# Altium integrated library Analog Devices Switches and Multiplexers Multiplexers (Muxes).IntLib: 481 symbols (part 21 of 23)
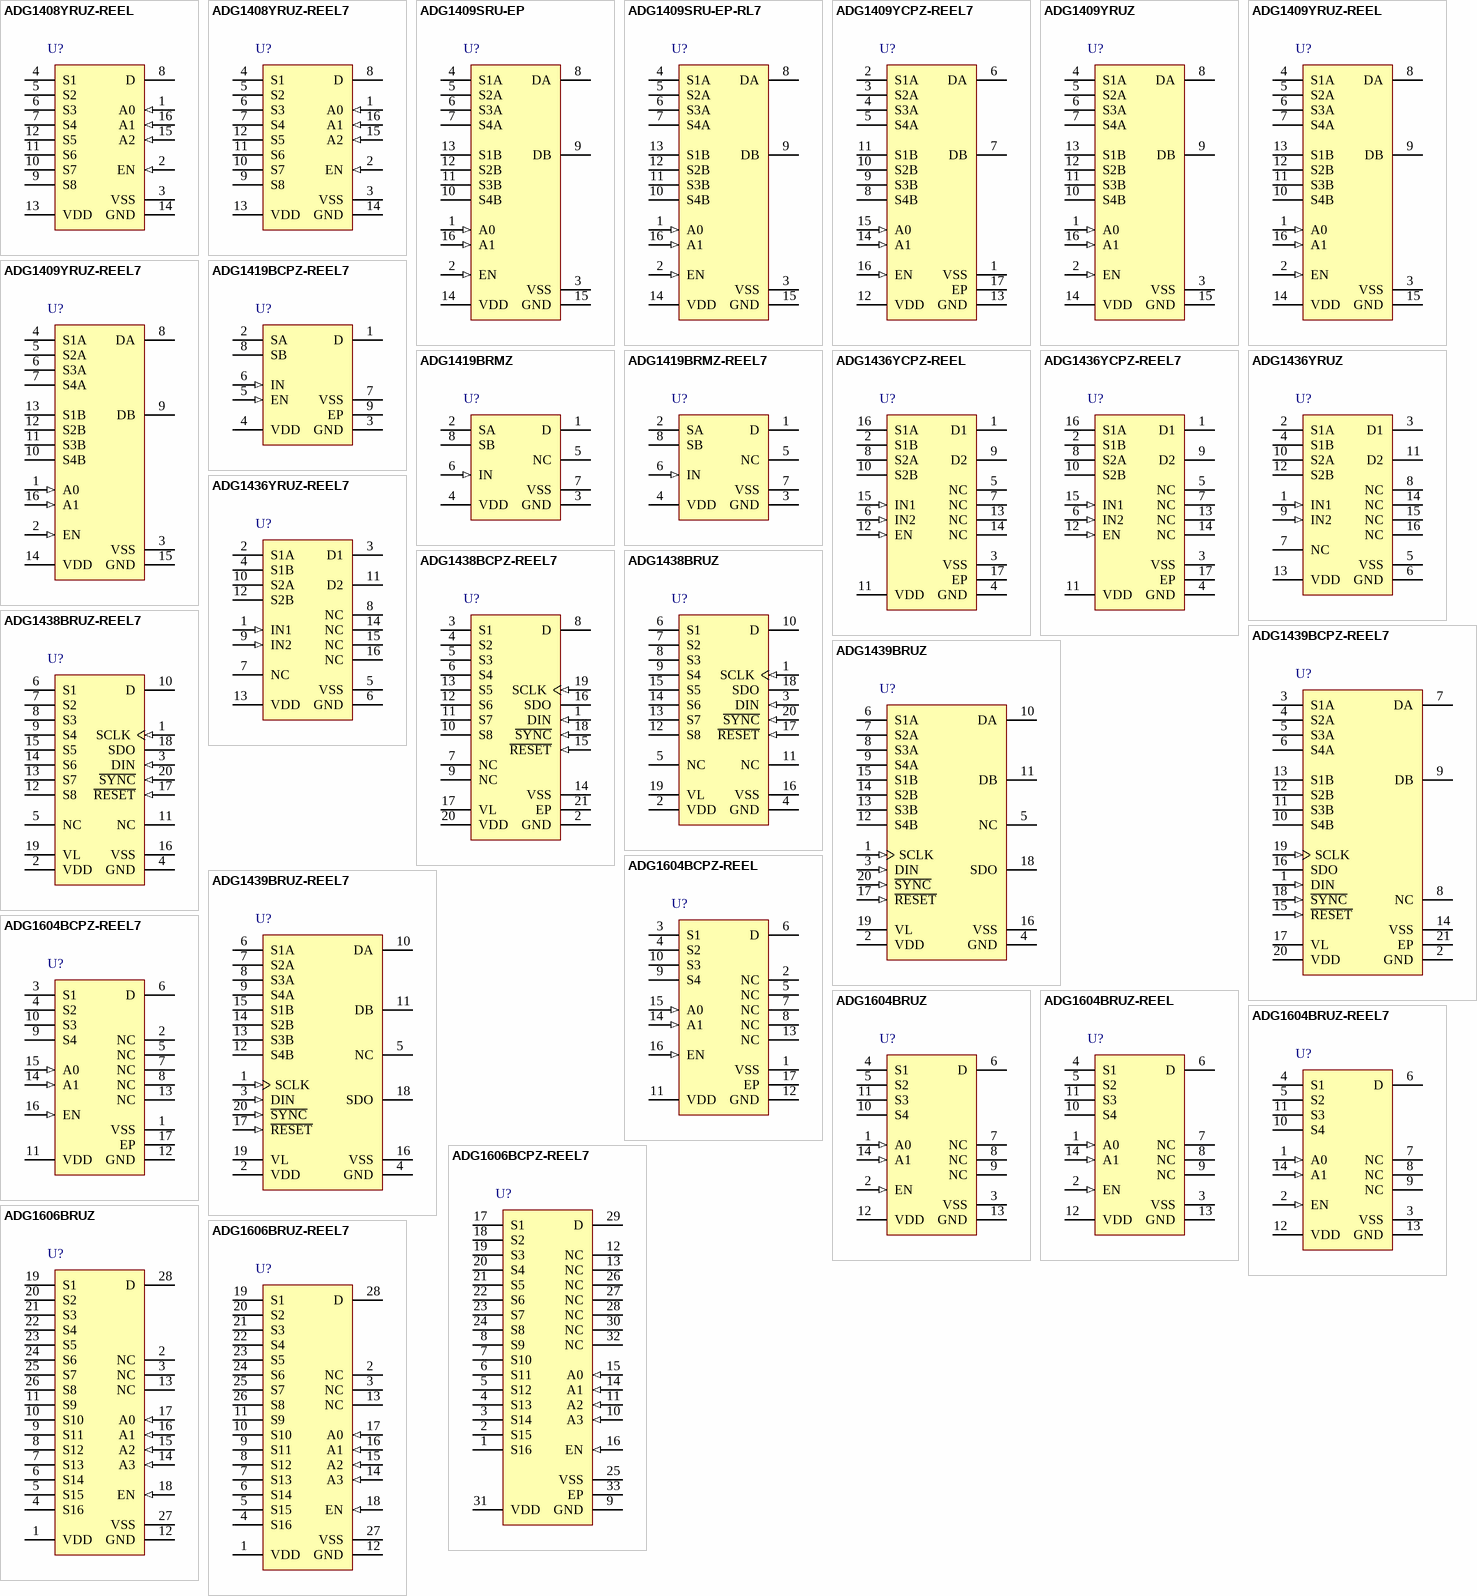
[diagram p37: symbols ADG1408YRUZ-REEL to ADG1606BRUZ-REEL7]

## ADG1409YRUZ-REEL7
designator U?
4 Ohm Ron, 4-Channel +/-15 V / +12 V / +/-5 V iCMOS Multiplexer, 16-pin SOP (RU-16), Reel; Manufacturer: Analog Devices; PartNumber: ADG1409YRUZ-REEL7; Bandwidth (Hz): 115M, 72 M, 80M; Max Analog Signal Range: Vss to Vdd; Ron (ohms): 4; t transition (s): 140n; DatasheetVersion: Rev. B; PackageVersion: Nov-02; PackageReference: RU-16; PackageDescription: 16-Pin Thin Shrink Small Outline Package, Body 5 x 4.4 mm, Pitch 0.65 mm; Supplier 1: Digi-Key; Supplier Part Number 1: ADG1409YRUZ-REEL7TR-ND; Supplier 2: Digi-Key; Supplier Part Number 2: ADG1409YRUZ-REEL7CT-ND; Supplier 3: Digi-Key; Supplier Part Number 3: ADG1409YRUZ-REEL7DKR-ND; Supplier 4: Newark; Supplier Part Number 4: 46M5171; Supplier 5: Mouser; Supplier Part Number 5: 584-ADG1409YRUZ-R7; Packing: Reel; Mounting Technology: Surface Mount; Code_JEDEC: MO-153AB; ComponentLink1Description: Manufacturer URL; ComponentLink1URL: http://www.analog.com/en/index.html; ComponentLink2Description: Datasheet; ComponentLink2URL: http://www.analog.com/static/imported-files/data_sheets/ADG1408_1409.pdf; ComponentLink3Description: Package Specification; ComponentLink3URL: http:/www.analog.com/static/imported-files/packages/36244347913743854010197452789RU16.pdf
footprint ADI-RU-16_N (SOP, 16-Leads, Body 5x4.4mm, Pitch 0.65mm, IPC Medium Density)
footprint ADI-RU-16_L (SOP, 16-Leads, Body 5x4.4mm, Pitch 0.65mm, IPC High Density)
footprint ADI-RU-16_M (SOP, 16-Leads, Body 5x4.4mm, Pitch 0.65mm, IPC Low Density)
pins: 1 A0 (in) "Logic Control Input.", 2 EN (in) "Active High Digital Input. When low, the device is disabled and all switches are off. When high, Ax logic inputs determine on switches.", 3 VSS (power) "Most Negative Power Supply Potential. In single supply applications, it can be connected to ground.", 4 S1A "Source Terminal 1A. Can be an input or an output.", 5 S2A "Source Terminal 2A. Can be an input or an output.", 6 S3A "Source Terminal 3A. Can be an input or an output.", 7 S4A "Source Terminal 4A. Can be an input or an output.", 8 DA "Drain Terminal A. Can be an input or an output.", 9 DB "Drain Terminal B. Can be an input or an output.", 10 S4B "Source Terminal 4B. Can be an input or an output.", 11 S3B "Source Terminal 3B. Can be an input or an output.", 12 S2B "Source Terminal 2B. Can be an input or an output", 13 S1B "Source Terminal 1B. Can be an input or an output.", 14 VDD (power) "Most Positive Power Supply Potential.", 15 GND (power) "Ground (0 V) Reference.", 16 A1 (in) "Logic Control Input."

## ADG1419BCPZ-REEL7
designator U?
+/-15 V / +12 V / +/-5 V iCMOS SPDT Switch, 8-pin QFN (CP-8-4), Reel; Manufacturer: Analog Devices; PartNumber: ADG1419BCPZ-REEL7; Bandwidth (Hz): 135M, 95M, 105M; Max Analog Signal Range: Vss to Vdd; Ron (ohms): 2.1; DatasheetVersion: Rev. 0; PackageVersion: 081806-A, 08/2006; PackageReference: CP-8-4; PackageDescription: 8-Pin Lead Frame Chip Scale Package, Body 3 x 2 mm, Pitch 0.5 mm; Supplier 1: Digi-Key; Supplier Part Number 1: ADG1419BCPZ-REEL7TR-ND; Supplier 2: Digi-Key; Supplier Part Number 2: ADG1419BCPZ-REEL7CT-ND; Supplier 3: Digi-Key; Supplier Part Number 3: ADG1419BCPZ-REEL7DKR-ND; Supplier 4: Farnell; Supplier Part Number 4: 2312938; Supplier 5: Newark; Supplier Part Number 5: 52R8033; Supplier 6: Newark; Supplier Part Number 6: 67W3119; Supplier 7: Mouser; Supplier Part Number 7: 584-ADG1419BCPZ-R7; Packing: Reel; Mounting Technology: Surface Mount; ComponentLink1Description: Manufacturer URL; ComponentLink1URL: http://www.analog.com/en/index.html; ComponentLink2Description: Datasheet; ComponentLink2URL: http://www.analog.com/static/imported-files/data_sheets/ADG1419.pdf; ComponentLink3Description: Package Specification; ComponentLink3URL: http://www.analog.com/static/imported-files/packages/57080735642908CP_8_4.pdf
footprint ADI-CP-8-4_V (SON, 8-Leads, Body 3x2mm, Pitch 0.5mm, Thermal Pad 1.75x1.9mm)
pins: 1 D "Drain Terminal. This pin can be an input or output.", 2 SA "Source Terminal. This pin can be an input or output.", 3 GND (power) "Ground (0 V) Reference.", 4 VDD (power) "Most Positive Power Supply Potential.", 5 EN (in) "Active High Digital Input. When this pin is low, the device is disabled and all switches are turned off. When this pin is high, the IN logic input determines which switch is turned on.", 6 IN (in) "Logic Control Input.", 7 VSS (power) "Most Negative Power Supply Potential.", 8 SB "Source Terminal. This pin can be an input or output.", 9 EP (power) "Exposed pad tied to substrate, VSS."

## ADG1419BRMZ
designator U?
+/-15 V / +12 V / +/-5 V iCMOS SPDT Switch, 8-pin SOP (RM-8), Tube; Manufacturer: Analog Devices; PartNumber: ADG1419BRMZ; Bandwidth (Hz): 135M, 95M, 105M; Max Analog Signal Range: Vss to Vdd; Ron (ohms): 2.1; DatasheetVersion: Rev. 0; PackageVersion: Aug-05; PackageReference: RM-8; PackageDescription: 8-Pin Mini Small Outline Package, Body 3 x 3 mm, Pitch 0.65 mm; Supplier 1: Digi-Key; Supplier Part Number 1: ADG1419BRMZ-ND; Supplier 2: Farnell; Supplier Part Number 2: 1858061; Supplier 3: Newark; Supplier Part Number 3: 52R8034; Supplier 4: Newark; Supplier Part Number 4: 39T3977; Supplier 5: Mouser; Supplier Part Number 5: 584-ADG1419BRMZ; Packing: Tube; Mounting Technology: Surface Mount; Code_JEDEC: MO-187-AA; ComponentLink1Description: Manufacturer URL; ComponentLink1URL: http://www.analog.com/en/index.html; ComponentLink2Description: Datasheet; ComponentLink2URL: http://www.analog.com/static/imported-files/data_sheets/ADG1419.pdf; ComponentLink3Description: Package Specification; ComponentLink3URL: http://www.analog.com/static/imported-files/packages/PKG_PDF/MSOP%28RM%29/RM_8.pdf
footprint ADI-RM-8_N (SOP, 8-Leads, Body 3x3mm, Pitch 0.65mm, IPC Medium Density)
footprint ADI-RM-8_L (SOP, 8-Leads, Body 3x3mm, Pitch 0.65mm, IPC High Density)
footprint ADI-RM-8_M (SOP, 8-Leads, Body 3x3mm, Pitch 0.65mm, IPC Low Density)
pins: 1 D "Drain Terminal. This pin can be an input or output.", 2 SA "Source Terminal. This pin can be an input or output.", 3 GND (power) "Ground (0 V) Reference.", 4 VDD (power) "Most Positive Power Supply Potential.", 5 NC "No Connect.", 6 IN (in) "Logic Control Input.", 7 VSS (power) "Most Negative Power Supply Potential.", 8 SB "Source Terminal. This pin can be an input or output."

## ADG1419BRMZ-REEL7
designator U?
+/-15 V / +12 V / +/-5 V iCMOS SPDT Switch, 8-pin SOP (RM-8), Reel; Manufacturer: Analog Devices; PartNumber: ADG1419BRMZ-REEL7; Bandwidth (Hz): 135M, 95M, 105M; Max Analog Signal Range: Vss to Vdd; Ron (ohms): 2.1; DatasheetVersion: Rev. 0; PackageVersion: Aug-05; PackageReference: RM-8; PackageDescription: 8-Pin Mini Small Outline Package, Body 3 x 3 mm, Pitch 0.65 mm; Supplier 1: Digi-Key; Supplier Part Number 1: ADG1419BRMZ-REEL7TR-ND; Supplier 2: Digi-Key; Supplier Part Number 2: ADG1419BRMZ-REEL7CT-ND; Supplier 3: Digi-Key; Supplier Part Number 3: ADG1419BRMZ-REEL7DKR-ND; Supplier 4: Newark; Supplier Part Number 4: 52R8035; Supplier 5: Mouser; Supplier Part Number 5: 584-ADG1419BRMZ-R7; Packing: Reel; Mounting Technology: Surface Mount; Code_JEDEC: MO-187-AA; ComponentLink1Description: Manufacturer URL; ComponentLink1URL: http://www.analog.com/en/index.html; ComponentLink2Description: Datasheet; ComponentLink2URL: http://www.analog.com/static/imported-files/data_sheets/ADG1419.pdf; ComponentLink3Description: Package Specification; ComponentLink3URL: http://www.analog.com/static/imported-files/packages/PKG_PDF/MSOP%28RM%29/RM_8.pdf
footprint ADI-RM-8_N (SOP, 8-Leads, Body 3x3mm, Pitch 0.65mm, IPC Medium Density)
footprint ADI-RM-8_L (SOP, 8-Leads, Body 3x3mm, Pitch 0.65mm, IPC High Density)
footprint ADI-RM-8_M (SOP, 8-Leads, Body 3x3mm, Pitch 0.65mm, IPC Low Density)
pins: 1 D "Drain Terminal. This pin can be an input or output.", 2 SA "Source Terminal. This pin can be an input or output.", 3 GND (power) "Ground (0 V) Reference.", 4 VDD (power) "Most Positive Power Supply Potential.", 5 NC "No Connect.", 6 IN (in) "Logic Control Input.", 7 VSS (power) "Most Negative Power Supply Potential.", 8 SB "Source Terminal. This pin can be an input or output."

## ADG1436YCPZ-REEL
designator U?
+/-15 V / 12 V / +/-5 V, iCMOS, Dual SPDT Switch, 16-pin QFN (CP-16-13), Reel; Manufacturer: Analog Devices; PartNumber: ADG1436YCPZ-REEL; Bandwidth (Hz): 110M, 78M, 85M; Max Analog Signal Range: Vss to Vdd; Ron (ohms): 1.5; DatasheetVersion: Rev. A; PackageVersion: 031006-A, 06/2006; PackageReference: CP-16-13; PackageDescription: 16-Pin Lead Frame Chip Scale Package, Body 4 x 4 mm, Pitch 0.65 mm; Supplier 1: Digi-Key; Supplier Part Number 1: ADG1436YCPZ-REEL-ND; Supplier 2: Newark; Supplier Part Number 2: 51R0649; Supplier 3: Mouser; Supplier Part Number 3: 584-ADG1436YCPZ-R; Packing: Reel; Mounting Technology: Surface Mount; Code_JEDEC: MO-220-VGGC.; ComponentLink1Description: Manufacturer URL; ComponentLink1URL: http://www.analog.com/en/index.html; ComponentLink2Description: Datasheet; ComponentLink2URL: http://www.analog.com/static/imported-files/data_sheets/ADG1436.pdf; ComponentLink3Description: Package Specification; ComponentLink3URL: http://www.analog.com/static/imported-files/packages/PKG_PDF/LFCSP(CP)/CP-16/CP_16_13.pdf
footprint ADI-CP-16-13_N (QFN, 16-Leads, Body 4x4mm, Pitch 0.65mm, Thermal Pad 2.5x2.5mm, IPC Medium Density)
footprint ADI-CP-16-13_L (QFN, 16-Leads, Body 4x4mm, Pitch 0.65mm, Thermal Pad 2.5x2.5mm, IPC High Density)
footprint ADI-CP-16-13_M (QFN, 16-Leads, Body 4x4mm, Pitch 0.65mm, Thermal Pad 2.5x2.5mm, IPC Low Density)
pins: 1 D1 "Drain Terminal. Can be an input or output.", 2 S1B "Source Terminal. Can be an input or output.", 3 VSS (power) "Most Negative Power Supply Potential.", 4 GND (power) "Ground (0 V) Reference.", 5 NC "No Connect.", 6 IN2 (in) "Logic Control Input.", 7 NC "No Connect.", 8 S2A "Source Terminal. Can be an input or output.", 9 D2 "Drain Terminal. Can be an input or output.", 10 S2B "Source Terminal. Can be an input or output.", 11 VDD (power) "Most Positive Power Supply Potential.", 12 EN (in) "Active High Digital Input. When this pin is low, the device is disabled and all switches are off. When this pin is high, INx logic inputs determine the on switches.", 13 NC "No Connect.", 14 NC "No Connect.", 15 IN1 (in) "Logic Control Input.", 16 S1A "Source Terminal. Can be an input or output.", 17 EP (power) "Exposed pad tied to substrate, VSS."

## ADG1436YCPZ-REEL7
designator U?
+/-15 V / 12 V / +/-5 V, iCMOS, Dual SPDT Switch, 16-pin QFN (CP-16-13), Reel; Manufacturer: Analog Devices; PartNumber: ADG1436YCPZ-REEL7; Bandwidth (Hz): 110M, 78M, 85M; Max Analog Signal Range: Vss to Vdd; Ron (ohms): 1.5; DatasheetVersion: Rev. A; PackageVersion: 031006-A, 06/2006; PackageReference: CP-16-13; PackageDescription: 16-Pin Lead Frame Chip Scale Package, Body 4 x 4 mm, Pitch 0.65 mm; Supplier 1: Digi-Key; Supplier Part Number 1: ADG1436YCPZ-REEL7TR-ND; Supplier 2: Digi-Key; Supplier Part Number 2: ADG1436YCPZ-REEL7CT-ND; Supplier 3: Digi-Key; Supplier Part Number 3: ADG1436YCPZ-REEL7DKR-ND; Supplier 4: Farnell; Supplier Part Number 4: 2312940; Supplier 5: Newark; Supplier Part Number 5: 51R0650; Supplier 6: Newark; Supplier Part Number 6: 67W3122; Supplier 7: Mouser; Supplier Part Number 7: 584-ADG1436YCPZ-R7; Packing: Reel; Mounting Technology: Surface Mount; Code_JEDEC: MO-220-VGGC.; ComponentLink1Description: Manufacturer URL; ComponentLink1URL: http://www.analog.com/en/index.html; ComponentLink2Description: Datasheet; ComponentLink2URL: http://www.analog.com/static/imported-files/data_sheets/ADG1436.pdf; ComponentLink3Description: Package Specification; ComponentLink3URL: http://www.analog.com/static/imported-files/packages/PKG_PDF/LFCSP(CP)/CP-16/CP_16_13.pdf
footprint ADI-CP-16-13_N (QFN, 16-Leads, Body 4x4mm, Pitch 0.65mm, Thermal Pad 2.5x2.5mm, IPC Medium Density)
footprint ADI-CP-16-13_L (QFN, 16-Leads, Body 4x4mm, Pitch 0.65mm, Thermal Pad 2.5x2.5mm, IPC High Density)
footprint ADI-CP-16-13_M (QFN, 16-Leads, Body 4x4mm, Pitch 0.65mm, Thermal Pad 2.5x2.5mm, IPC Low Density)
pins: 1 D1 "Drain Terminal. Can be an input or output.", 2 S1B "Source Terminal. Can be an input or output.", 3 VSS (power) "Most Negative Power Supply Potential.", 4 GND (power) "Ground (0 V) Reference.", 5 NC "No Connect.", 6 IN2 (in) "Logic Control Input.", 7 NC "No Connect.", 8 S2A "Source Terminal. Can be an input or output.", 9 D2 "Drain Terminal. Can be an input or output.", 10 S2B "Source Terminal. Can be an input or output.", 11 VDD (power) "Most Positive Power Supply Potential.", 12 EN (in) "Active High Digital Input. When this pin is low, the device is disabled and all switches are off. When this pin is high, INx logic inputs determine the on switches.", 13 NC "No Connect.", 14 NC "No Connect.", 15 IN1 (in) "Logic Control Input.", 16 S1A "Source Terminal. Can be an input or output.", 17 EP (power) "Exposed pad tied to substrate, VSS."

## ADG1436YRUZ
designator U?
+/-15 V / 12 V / +/-5 V, iCMOS, Dual SPDT Switch, 16-pin SOP (RU-16), Tube; Manufacturer: Analog Devices; PartNumber: ADG1436YRUZ; Bandwidth (Hz): 110M, 78M, 85M; Max Analog Signal Range: Vss to Vdd; Ron (ohms): 1.5; DatasheetVersion: Rev. A; PackageVersion: Nov-02; PackageReference: RU-16; PackageDescription: 16-Pin Thin Shrink Small Outline Package, Body 5 x 4.4 mm, Pitch 0.65 mm; Supplier 1: Digi-Key; Supplier Part Number 1: ADG1436YRUZ-ND; Supplier 2: Farnell; Supplier Part Number 2: 2067799; Supplier 3: Newark; Supplier Part Number 3: 73T8146; Supplier 4: Newark; Supplier Part Number 4: 51R0651; Supplier 5: Mouser; Supplier Part Number 5: 584-ADG1436YRUZ; Packing: Tube; Mounting Technology: Surface Mount; Code_JEDEC: MO-153AB; ComponentLink1Description: Manufacturer URL; ComponentLink1URL: http://www.analog.com/en/index.html; ComponentLink2Description: Datasheet; ComponentLink2URL: http://www.analog.com/static/imported-files/data_sheets/ADG1436.pdf; ComponentLink3Description: Package Specification; ComponentLink3URL: http:/www.analog.com/static/imported-files/packages/36244347913743854010197452789RU16.pdf
footprint ADI-RU-16_N (SOP, 16-Leads, Body 5x4.4mm, Pitch 0.65mm, IPC Medium Density)
footprint ADI-RU-16_L (SOP, 16-Leads, Body 5x4.4mm, Pitch 0.65mm, IPC High Density)
footprint ADI-RU-16_M (SOP, 16-Leads, Body 5x4.4mm, Pitch 0.65mm, IPC Low Density)
pins: 1 IN1 (in) "Logic Control Input.", 2 S1A "Source Terminal. Can be an input or output.", 3 D1 "Drain Terminal. Can be an input or output.", 4 S1B "Source Terminal. Can be an input or output.", 5 VSS (power) "Most Negative Power Supply Potential.", 6 GND (power) "Ground (0 V) Reference.", 7 NC "No Connect.", 8 NC "No Connect.", 9 IN2 (in) "Logic Control Input.", 10 S2A "Source Terminal. Can be an input or output.", 11 D2 "Drain Terminal. Can be an input or output.", 12 S2B "Source Terminal. Can be an input or output.", 13 VDD (power) "Most Positive Power Supply Potential.", 14 NC "No Connect.", 15 NC "No Connect.", 16 NC "No Connect."

## ADG1436YRUZ-REEL7
designator U?
+/-15 V / 12 V / +/-5 V, iCMOS, Dual SPDT Switch, 16-pin SOP (RU-16), Reel; Manufacturer: Analog Devices; PartNumber: ADG1436YRUZ-REEL7; Bandwidth (Hz): 110M, 78M, 85M; Max Analog Signal Range: Vss to Vdd; Ron (ohms): 1.5; DatasheetVersion: Rev. A; PackageVersion: Nov-02; PackageReference: RU-16; PackageDescription: 16-Pin Thin Shrink Small Outline Package, Body 5 x 4.4 mm, Pitch 0.65 mm; Supplier 1: Digi-Key; Supplier Part Number 1: ADG1436YRUZ-REEL7TR-ND; Supplier 2: Digi-Key; Supplier Part Number 2: ADG1436YRUZ-REEL7CT-ND; Supplier 3: Digi-Key; Supplier Part Number 3: ADG1436YRUZ-REEL7DKR-ND; Supplier 4: Newark; Supplier Part Number 4: 51R0652; Supplier 5: Mouser; Supplier Part Number 5: 584-ADG1436YRUZ-R7; Packing: Reel; Mounting Technology: Surface Mount; Code_JEDEC: MO-153AB; ComponentLink1Description: Manufacturer URL; ComponentLink1URL: http://www.analog.com/en/index.html; ComponentLink2Description: Datasheet; ComponentLink2URL: http://www.analog.com/static/imported-files/data_sheets/ADG1436.pdf; ComponentLink3Description: Package Specification; ComponentLink3URL: http:/www.analog.com/static/imported-files/packages/36244347913743854010197452789RU16.pdf
footprint ADI-RU-16_N (SOP, 16-Leads, Body 5x4.4mm, Pitch 0.65mm, IPC Medium Density)
footprint ADI-RU-16_L (SOP, 16-Leads, Body 5x4.4mm, Pitch 0.65mm, IPC High Density)
footprint ADI-RU-16_M (SOP, 16-Leads, Body 5x4.4mm, Pitch 0.65mm, IPC Low Density)
pins: 1 IN1 (in) "Logic Control Input.", 2 S1A "Source Terminal. Can be an input or output.", 3 D1 "Drain Terminal. Can be an input or output.", 4 S1B "Source Terminal. Can be an input or output.", 5 VSS (power) "Most Negative Power Supply Potential.", 6 GND (power) "Ground (0 V) Reference.", 7 NC "No Connect.", 8 NC "No Connect.", 9 IN2 (in) "Logic Control Input.", 10 S2A "Source Terminal. Can be an input or output.", 11 D2 "Drain Terminal. Can be an input or output.", 12 S2B "Source Terminal. Can be an input or output.", 13 VDD (power) "Most Positive Power Supply Potential.", 14 NC "No Connect.", 15 NC "No Connect.", 16 NC "No Connect."

## ADG1438BCPZ-REEL7
designator U?
Serially Controlled, +/-15 V / +12 V / +/-5 V, 8-Channel, iCMOS Multiplexer / Matrix Switch, 9.5 Ohm Ron, 20-pin QFN (CP-20-4), Reel; Manufacturer: Analog Devices; PartNumber: ADG1438BCPZ-REEL7; Bandwidth (Hz): 82M, 58M, 62M; Max Analog Signal Range: Vss to Vdd; Ron (ohms): 9.5; t transition (s): 80n; DatasheetVersion: Rev. A; PackageVersion: 012508-B; PackageReference: CP-20-4; PackageDescription: 20-Pin Lead Frame Chip Scale Package, Body 4 x 4 mm, Pitch 0.5 mm; Supplier 1: Digi-Key; Supplier Part Number 1: ADG1438BCPZ-REEL7TR-ND; Supplier 2: Digi-Key; Supplier Part Number 2: ADG1438BCPZ-REEL7CT-ND; Supplier 3: Digi-Key; Supplier Part Number 3: ADG1438BCPZ-REEL7DKR-ND; Supplier 4: Newark; Supplier Part Number 4: 70R1814; Supplier 5: Mouser; Supplier Part Number 5: 584-ADG1438BCPZ-R7; Packing: Reel; Mounting Technology: Surface Mount; Code_JEDEC: MO-220-VGGD-1; ComponentLink1Description: Manufacturer URL; ComponentLink1URL: http://www.analog.com/en/index.html; ComponentLink2Description: Datasheet; ComponentLink2URL: http://www.analog.com/static/imported-files/data_sheets/ADG1438_1439.pdf; ComponentLink3Description: Package Specification; ComponentLink3URL: http://www.analog.com/static/imported-files/packages/PKG_PDF/LFCSP(CP)/CP_20_4.pdf
footprint ADI-CP-20-4_N (QFN, 20-Leads, Body 4x4mm, Pitch 0.5mm, Thermal Pad 2.5x2.5mm, IPC Medium Density)
footprint ADI-CP-20-4_L (QFN, 20-Leads, Body 4x4mm, Pitch 0.5mm, Thermal Pad 2.5x2.5mm, IPC High Density)
footprint ADI-CP-20-4_M (QFN, 20-Leads, Body 4x4mm, Pitch 0.5mm, Thermal Pad 2.5x2.5mm, IPC Low Density)
pins: 1 DIN (in) "Serial Data Input. This device has an 8-bit shift register. Data is clocked into the register on the falling edge of the serial clock input.", 2 GND (power) "Ground (0 V) Reference.", 3 S1 "Source Terminal 1. Can be an input or an output.", 4 S2 "Source Terminal 2. Can be an input or an output.", 5 S3 "Source Terminal 3. Can be an input or an output.", 6 S4 "Source Terminal 4. Can be an input or an output.", 7 NC "No Connect.", 8 D "Drain Terminal. Can be an input or an output", 9 NC "No Connect.", 10 S8 "Source Terminal 8. Can be an input or an output.", 11 S7 "Source Terminal 7. Can be an input or an output.", 12 S6 "Source Terminal 6. Can be an input or an output.", 13 S5 "Source Terminal 5. Can be an input or an output.", 14 VSS (power) "Most Negative Power Supply Potential. In single-supply applications, it can be connected to ground.", 15 ~{RESET} (in) "Active Low Logic Input. When this pin is low, all switches are open, and the appropriate registers are cleared to 0.", 16 SDO (hiz) "Serial Data Output. Can be used for daisy-chaining a number of these devices together or for reading back the data in the shift register for diagnostic purposes. The serial data is transferred on the rising edge of SCLK and (See Datasheet)", 17 VL (power) "Logic Power Supply Input. Operates from 2.7 V to 5.5 V.", 18 ~{SYNC} (in) "Active Low Control Input. This is the frame synchronization signal for the input data. When S\Y\N\C\ goes low, it powers on the SCLK and DIN buffers and enables the input shift register. Data is transferred in on the falling (See Datasheet)", 19 SCLK (in) "Serial Clock Input. Data is clocked into the input shift register on the falling edge of the serial clock input. Data can be transferred at rates of up to 50 MHz.", 20 VDD (power) "Most Positive Power Supply Potential.", 21 EP (power) "The exposed pad is tied to the substrate, VSS."

## ADG1438BRUZ
designator U?
Serially Controlled, +/-15 V / +12 V / +/-5 V, 8-Channel, iCMOS Multiplexer / Matrix Switch, 9.5 Ohm Ron, 20-pin SOP (RU-20), Tube; Manufacturer: Analog Devices; PartNumber: ADG1438BRUZ; Bandwidth (Hz): 82M, 58M, 62M; Max Analog Signal Range: Vss to Vdd; Ron (ohms): 9.5; t transition (s): 80n; DatasheetVersion: Rev. A; PackageVersion: Jan-03; PackageReference: RU-20; PackageDescription: 20-Pin Thin Shrink Small Outline Package, Body 6.5 x 4.4 mm, Pitch 0.65 mm; Supplier 1: Digi-Key; Supplier Part Number 1: ADG1438BRUZ-ND; Supplier 2: Newark; Supplier Part Number 2: 52R8042; Supplier 3: Mouser; Supplier Part Number 3: 584-ADG1438BRUZ; Packing: Tube; Mounting Technology: Surface Mount; Code_JEDEC: MO-153AC; ComponentLink1Description: Manufacturer URL; ComponentLink1URL: http://www.analog.com/en/index.html; ComponentLink2Description: Datasheet; ComponentLink2URL: http://www.analog.com/static/imported-files/data_sheets/ADG1438_1439.pdf; ComponentLink3Description: Package Specification; ComponentLink3URL: http://www.analog.com/static/imported-files/packages/364515793657813558433715854054607941441RU20.pdf
footprint ADI-RU-20_N (SOP, 20-Leads, Body 6.5x4.4mm, Pitch 0.65mm, IPC Medium Density)
footprint ADI-RU-20_L (SOP, 20-Leads, Body 6.5x4.4mm, Pitch 0.65mm, IPC High Density)
footprint ADI-RU-20_M (SOP, 20-Leads, Body 6.5x4.4mm, Pitch 0.65mm, IPC Low Density)
pins: 1 SCLK (in) "Serial Clock Input. Data is clocked into the input shift register on the falling edge of the serial clock input. Data can be transferred at rates of up to 50 MHz.", 2 VDD (power) "Most Positive Power Supply Potential.", 3 DIN (in) "Serial Data Input. This device has an 8-bit shift register. Data is clocked into the register on the falling edge of the serial clock input.", 4 GND (power) "Ground (0 V) Reference.", 5 NC "No Connect.", 6 S1 "Source Terminal 1. Can be an input or an output.", 7 S2 "Source Terminal 2. Can be an input or an output.", 8 S3 "Source Terminal 3. Can be an input or an output.", 9 S4 "Source Terminal 4. Can be an input or an output.", 10 D "Drain Terminal. Can be an input or an output.", 11 NC "No Connect.", 12 S8 "Source Terminal 8. Can be an input or an output.", 13 S7 "Source Terminal 7. Can be an input or an output.", 14 S6 "Source Terminal 6. Can be an input or an output.", 15 S5 "Source Terminal 5. Can be an input or an output.", 16 VSS (power) "Most Negative Power Supply Potential. In single-supply applications, it can be connected to ground.", 17 ~{RESET} (in) "Active Low Logic Input. When this pin is low, all switches are open, and the appropriate registers are cleared to 0.", 18 SDO (oc) "Serial Data Output. Can be used for daisy-chaining a number of these devices together or for reading back the data in the shift register for diagnostic purposes. The serial data is transferred on the rising edge of SCLK and (See Datasheet)", 19 VL (power) "Logic Power Supply Input. Operates from 2.7 V to 5.5 V.", 20 ~{SYNC} (in) "Active Low Control Input. This is the frame synchronization signal for the input data. When S\Y\N\C\ goes low, it powers on the SCLK and DIN buffers and enables the input shift register. Data is transferred in on the falling (See Datasheet)"

## ADG1438BRUZ-REEL7
designator U?
Serially Controlled, +/-15 V / +12 V / +/-5 V, 8-Channel, iCMOS Multiplexer / Matrix Switch, 9.5 Ohm Ron, 20-pin SOP (RU-20), Reel; Manufacturer: Analog Devices; PartNumber: ADG1438BRUZ-REEL7; Bandwidth (Hz): 82M, 58M, 62M; Max Analog Signal Range: Vss to Vdd; Ron (ohms): 9.5; t transition (s): 80n; DatasheetVersion: Rev. A; PackageVersion: Jan-03; PackageReference: RU-20; PackageDescription: 20-Pin Thin Shrink Small Outline Package, Body 6.5 x 4.4 mm, Pitch 0.65 mm; Supplier 1: Digi-Key; Supplier Part Number 1: ADG1438BRUZ-REEL7-ND; Supplier 2: Mouser; Supplier Part Number 2: 584-ADG1438BRUZ-R7; Packing: Reel; Mounting Technology: Surface Mount; Code_JEDEC: MO-153AC; ComponentLink1Description: Manufacturer URL; ComponentLink1URL: http://www.analog.com/en/index.html; ComponentLink2Description: Datasheet; ComponentLink2URL: http://www.analog.com/static/imported-files/data_sheets/ADG1438_1439.pdf; ComponentLink3Description: Package Specification; ComponentLink3URL: http://www.analog.com/static/imported-files/packages/364515793657813558433715854054607941441RU20.pdf
footprint ADI-RU-20_N (SOP, 20-Leads, Body 6.5x4.4mm, Pitch 0.65mm, IPC Medium Density)
footprint ADI-RU-20_L (SOP, 20-Leads, Body 6.5x4.4mm, Pitch 0.65mm, IPC High Density)
footprint ADI-RU-20_M (SOP, 20-Leads, Body 6.5x4.4mm, Pitch 0.65mm, IPC Low Density)
pins: 1 SCLK (in) "Serial Clock Input. Data is clocked into the input shift register on the falling edge of the serial clock input. Data can be transferred at rates of up to 50 MHz.", 2 VDD (power) "Most Positive Power Supply Potential.", 3 DIN (in) "Serial Data Input. This device has an 8-bit shift register. Data is clocked into the register on the falling edge of the serial clock input.", 4 GND (power) "Ground (0 V) Reference.", 5 NC "No Connect.", 6 S1 "Source Terminal 1. Can be an input or an output.", 7 S2 "Source Terminal 2. Can be an input or an output.", 8 S3 "Source Terminal 3. Can be an input or an output.", 9 S4 "Source Terminal 4. Can be an input or an output.", 10 D "Drain Terminal. Can be an input or an output.", 11 NC "No Connect.", 12 S8 "Source Terminal 8. Can be an input or an output.", 13 S7 "Source Terminal 7. Can be an input or an output.", 14 S6 "Source Terminal 6. Can be an input or an output.", 15 S5 "Source Terminal 5. Can be an input or an output.", 16 VSS (power) "Most Negative Power Supply Potential. In single-supply applications, it can be connected to ground.", 17 ~{RESET} (in) "Active Low Logic Input. When this pin is low, all switches are open, and the appropriate registers are cleared to 0.", 18 SDO (oc) "Serial Data Output. Can be used for daisy-chaining a number of these devices together or for reading back the data in the shift register for diagnostic purposes. The serial data is transferred on the rising edge of SCLK and (See Datasheet)", 19 VL (power) "Logic Power Supply Input. Operates from 2.7 V to 5.5 V.", 20 ~{SYNC} (in) "Active Low Control Input. This is the frame synchronization signal for the input data. When S\Y\N\C\ goes low, it powers on the SCLK and DIN buffers and enables the input shift register. Data is transferred in on the falling (See Datasheet)"

## ADG1439BCPZ-REEL7
designator U?
Serially Controlled, +/-15 V / +12 V / +/-5 V, 4-Channel, iCMOS Multiplexer / Matrix Switch, 9.5 Ohm Ron, 20-pin QFN (CP-20-4), Reel; Manufacturer: Analog Devices; PartNumber: ADG1439BCPZ-REEL7; Bandwidth (Hz): 130M, 105M, 116M; Max Analog Signal Range: Vss to Vdd; Ron (ohms): 9.5; t transition (s): 80n; DatasheetVersion: Rev. A; PackageVersion: 012508-B; PackageReference: CP-20-4; PackageDescription: 20-Pin Lead Frame Chip Scale Package, Body 4 x 4 mm, Pitch 0.5 mm; Supplier 1: Digi-Key; Supplier Part Number 1: ADG1439BCPZ-REEL7TR-ND; Supplier 2: Digi-Key; Supplier Part Number 2: ADG1439BCPZ-REEL7CT-ND; Supplier 3: Digi-Key; Supplier Part Number 3: ADG1439BCPZ-REEL7DKR-ND; Supplier 4: Mouser; Supplier Part Number 4: 584-ADG1439BCPZ-R7; Packing: Reel; Mounting Technology: Surface Mount; Code_JEDEC: MO-220-VGGD-1; ComponentLink1Description: Manufacturer URL; ComponentLink1URL: http://www.analog.com/en/index.html; ComponentLink2Description: Datasheet; ComponentLink2URL: http://www.analog.com/static/imported-files/data_sheets/ADG1438_1439.pdf; ComponentLink3Description: Package Specification; ComponentLink3URL: http://www.analog.com/static/imported-files/packages/PKG_PDF/LFCSP(CP)/CP_20_4.pdf
footprint ADI-CP-20-4_N (QFN, 20-Leads, Body 4x4mm, Pitch 0.5mm, Thermal Pad 2.5x2.5mm, IPC Medium Density)
footprint ADI-CP-20-4_L (QFN, 20-Leads, Body 4x4mm, Pitch 0.5mm, Thermal Pad 2.5x2.5mm, IPC High Density)
footprint ADI-CP-20-4_M (QFN, 20-Leads, Body 4x4mm, Pitch 0.5mm, Thermal Pad 2.5x2.5mm, IPC Low Density)
pins: 1 DIN (in) "Serial Data Input. This device has an 8-bit shift register. Data is clocked into the register on the falling edge of the serial clock input.", 2 GND (power) "Ground (0 V) Reference.", 3 S1A "Source Terminal 1A. Can be an input or an output.", 4 S2A "Source Terminal 2A. Can be an input or an output.", 5 S3A "Source Terminal 3A. Can be an input or an output.", 6 S4A "Source Terminal 4A. Can be an input or an output.", 7 DA "Drain Terminal. Can be an input or an output", 8 NC "No connect.", 9 DB "Drain Terminal. Can be an input or an output", 10 S4B "Source Terminal 4B. Can be an input or an output.", 11 S3B "Source Terminal 3B. Can be an input or an output.", 12 S2B "Source Terminal 2B. Can be an input or an output.", 13 S1B "Source Terminal 1B. Can be an input or an output.", 14 VSS (power) "Most Negative Power Supply Potential. In single-supply applications, it can be connected to ground.", 15 ~{RESET} (in) "Active Low Logic Input. When this pin is low, all switches are open, and the appropriate registers are cleared to 0.", 16 SDO (oc) "Serial Data Output. Can be used for daisy-chaining a number of these devices together or for reading back the data in the shift register for diagnostic purposes. The serial data is transferred on the rising edge of SCLK and (See Datasheet)", 17 VL (power) "Logic Power Supply Input. Operates from 2.7 V to 5.5 V.", 18 ~{SYNC} (in) "Active Low Control Input. This is the frame synchronization signal for the input data. When S\Y\N\C\ goes low, it powers on the SCLK and DIN buffers and enables the input shift register. Data is transferred in on the falling (See Datasheet)", 19 SCLK (in) "Serial Clock Input. Data is clocked into the input shift register on the falling edge of the serial clock input. Data can be transferred at rates of up to 50 MHz.", 20 VDD (power) "Most Positive Power Supply Potential.", 21 EP (power) "The exposed pad is tied to the substrate, VSS."

## ADG1439BRUZ
designator U?
Serially Controlled, +/-15 V / +12 V / +/-5 V, 4-Channel, iCMOS Multiplexer / Matrix Switch, 9.5 Ohm Ron, 20-pin SOP (RU-20), Tube; Manufacturer: Analog Devices; PartNumber: ADG1439BRUZ; Bandwidth (Hz): 130M, 105M, 116M; Max Analog Signal Range: Vss to Vdd; Ron (ohms): 9.5; t transition (s): 80n; DatasheetVersion: Rev. A; PackageVersion: Jan-03; PackageReference: RU-20; PackageDescription: 20-Pin Thin Shrink Small Outline Package, Body 6.5 x 4.4 mm, Pitch 0.65 mm; Supplier 1: Digi-Key; Supplier Part Number 1: ADG1439BRUZ-ND; Supplier 2: Farnell; Supplier Part Number 2: 2313289; Supplier 3: Newark; Supplier Part Number 3: 52R8044; Supplier 4: Mouser; Supplier Part Number 4: 584-ADG1439BRUZ; Packing: Tube; Mounting Technology: Surface Mount; Code_JEDEC: MO-153AC; ComponentLink1Description: Manufacturer URL; ComponentLink1URL: http://www.analog.com/en/index.html; ComponentLink2Description: Datasheet; ComponentLink2URL: http://www.analog.com/static/imported-files/data_sheets/ADG1438_1439.pdf; ComponentLink3Description: Package Specification; ComponentLink3URL: http://www.analog.com/static/imported-files/packages/364515793657813558433715854054607941441RU20.pdf
footprint ADI-RU-20_N (SOP, 20-Leads, Body 6.5x4.4mm, Pitch 0.65mm, IPC Medium Density)
footprint ADI-RU-20_L (SOP, 20-Leads, Body 6.5x4.4mm, Pitch 0.65mm, IPC High Density)
footprint ADI-RU-20_M (SOP, 20-Leads, Body 6.5x4.4mm, Pitch 0.65mm, IPC Low Density)
pins: 1 SCLK (in) "Serial Clock Input. Data is clocked into the input shift register on the falling edge of the serial clock input. Data can be transferred at rates of up to 50 MHz.", 2 VDD (power) "Most Positive Power Supply Potential.", 3 DIN (in) "Serial Data Input. This device has an 8-bit shift register. Data is clocked into the register on the falling edge of the serial clock input.", 4 GND (power) "Ground (0 V) Reference.", 5 NC "No Connect.", 6 S1A "Source Terminal 1A. Can be an input or an output.", 7 S2A "Source Terminal 2A. Can be an input or an output.", 8 S3A "Source Terminal 3A. Can be an input or an output.", 9 S4A "Source Terminal 4A. Can be an input or an output.", 10 DA "Drain Terminal A. Can be an input or an output.", 11 DB "Drain Terminal B. Can be an input or an output.", 12 S4B "Source Terminal 4B. Can be an input or an output.", 13 S3B "Source Terminal 3B. Can be an input or an output.", 14 S2B "Source Terminal 2B. Can be an input or an output.", 15 S1B "Source Terminal 1B. Can be an input or an output.", 16 VSS (power) "Most Negative Power Supply Potential. In single-supply applications, it can be connected to ground.", 17 ~{RESET} (in) "Active Low Logic Input. When this pin is low, all switches are open, and appropriate registers are cleared to 0.", 18 SDO (oc) "Serial Data Output. Can be used for daisy-chaining a number of these devices together or for reading back the data in the shift register for diagnostic purposes. The serial data is transferred on the rising edge of SCLK and (See Datasheet)", 19 VL (power) "Logic Power Supply Input. Operates from 2.7 V to 5.5 V.", 20 ~{SYNC} (in) "Active Low Control Input. This is the frame synchronization signal for the input data. When S\Y\N\C\ goes low, it powers on the SCLK and DIN buffers and enables the input shift register. Data is transferred in on the falling (See Datasheet)"

## ADG1439BRUZ-REEL7
designator U?
Serially Controlled, +/-15 V / +12 V / +/-5 V, 4-Channel, iCMOS Multiplexer / Matrix Switch, 9.5 Ohm Ron, 20-pin SOP (RU-20), Reel; Manufacturer: Analog Devices; PartNumber: ADG1439BRUZ-REEL7; Bandwidth (Hz): 130M, 105M, 116M; Max Analog Signal Range: Vss to Vdd; Ron (ohms): 9.5; t transition (s): 80n; DatasheetVersion: Rev. A; PackageVersion: Jan-03; PackageReference: RU-20; PackageDescription: 20-Pin Thin Shrink Small Outline Package, Body 6.5 x 4.4 mm, Pitch 0.65 mm; Supplier 1: Digi-Key; Supplier Part Number 1: ADG1439BRUZ-REEL7-ND; Supplier 2: Mouser; Supplier Part Number 2: 584-ADG1439BRUZ-R7; Packing: Reel; Mounting Technology: Surface Mount; Code_JEDEC: MO-153AC; ComponentLink1Description: Manufacturer URL; ComponentLink1URL: http://www.analog.com/en/index.html; ComponentLink2Description: Datasheet; ComponentLink2URL: http://www.analog.com/static/imported-files/data_sheets/ADG1438_1439.pdf; ComponentLink3Description: Package Specification; ComponentLink3URL: http://www.analog.com/static/imported-files/packages/364515793657813558433715854054607941441RU20.pdf
footprint ADI-RU-20_N (SOP, 20-Leads, Body 6.5x4.4mm, Pitch 0.65mm, IPC Medium Density)
footprint ADI-RU-20_L (SOP, 20-Leads, Body 6.5x4.4mm, Pitch 0.65mm, IPC High Density)
footprint ADI-RU-20_M (SOP, 20-Leads, Body 6.5x4.4mm, Pitch 0.65mm, IPC Low Density)
pins: 1 SCLK (in) "Serial Clock Input. Data is clocked into the input shift register on the falling edge of the serial clock input. Data can be transferred at rates of up to 50 MHz.", 2 VDD (power) "Most Positive Power Supply Potential.", 3 DIN (in) "Serial Data Input. This device has an 8-bit shift register. Data is clocked into the register on the falling edge of the serial clock input.", 4 GND (power) "Ground (0 V) Reference.", 5 NC "No Connect.", 6 S1A "Source Terminal 1A. Can be an input or an output.", 7 S2A "Source Terminal 2A. Can be an input or an output.", 8 S3A "Source Terminal 3A. Can be an input or an output.", 9 S4A "Source Terminal 4A. Can be an input or an output.", 10 DA "Drain Terminal A. Can be an input or an output.", 11 DB "Drain Terminal B. Can be an input or an output.", 12 S4B "Source Terminal 4B. Can be an input or an output.", 13 S3B "Source Terminal 3B. Can be an input or an output.", 14 S2B "Source Terminal 2B. Can be an input or an output.", 15 S1B "Source Terminal 1B. Can be an input or an output.", 16 VSS (power) "Most Negative Power Supply Potential. In single-supply applications, it can be connected to ground.", 17 ~{RESET} (in) "Active Low Logic Input. When this pin is low, all switches are open, and appropriate registers are cleared to 0.", 18 SDO (oc) "Serial Data Output. Can be used for daisy-chaining a number of these devices together or for reading back the data in the shift register for diagnostic purposes. The serial data is transferred on the rising edge of SCLK and (See Datasheet)", 19 VL (power) "Logic Power Supply Input. Operates from 2.7 V to 5.5 V.", 20 ~{SYNC} (in) "Active Low Control Input. This is the frame synchronization signal for the input data. When S\Y\N\C\ goes low, it powers on the SCLK and DIN buffers and enables the input shift register. Data is transferred in on the falling (See Datasheet)"

## ADG1604BCPZ-REEL
designator U?
1 Ohm Typical On Resistance, +/-5 V, +12 V, +5 V and +3.3 V, 4:1 Multiplexer, 0.95 Ohm Ron, 16-pin QFN (CP-16-13), Reel; Manufacturer: Analog Devices; PartNumber: ADG1604BCPZ-REEL; Bandwidth (Hz): 15M, 19M, 16M, 15M; Max Analog Signal Range: Vss to Vdd; Ron (ohms): 950m; t transition (s): 100n; DatasheetVersion: Rev. A; PackageVersion: 031006-A, 06/2006; PackageReference: CP-16-13; PackageDescription: 16-Pin Lead Frame Chip Scale Package, Body 4 x 4 mm, Pitch 0.65 mm; Supplier 1: Digi-Key; Supplier Part Number 1: ADG1604BCPZ-REEL-ND; Supplier 2: Mouser; Supplier Part Number 2: 584-ADG1604BCPZ-R; Packing: Reel; Mounting Technology: Surface Mount; Code_JEDEC: MO-220-VGGC.; ComponentLink1Description: Manufacturer URL; ComponentLink1URL: http://www.analog.com/en/index.html; ComponentLink2Description: Datasheet; ComponentLink2URL: http://www.analog.com/static/imported-files/data_sheets/ADG1604.pdf; ComponentLink3Description: Package Specification; ComponentLink3URL: http://www.analog.com/static/imported-files/packages/PKG_PDF/LFCSP(CP)/CP-16/CP_16_13.pdf
footprint ADI-CP-16-13_N (QFN, 16-Leads, Body 4x4mm, Pitch 0.65mm, Thermal Pad 2.5x2.5mm, IPC Medium Density)
footprint ADI-CP-16-13_L (QFN, 16-Leads, Body 4x4mm, Pitch 0.65mm, Thermal Pad 2.5x2.5mm, IPC High Density)
footprint ADI-CP-16-13_M (QFN, 16-Leads, Body 4x4mm, Pitch 0.65mm, Thermal Pad 2.5x2.5mm, IPC Low Density)
pins: 1 VSS (power) "Most Negative Power Supply Potential.", 2 NC "No Connection.", 3 S1 "Source Terminal. This pin can be an input or output.", 4 S2 "Source Terminal. This pin can be an input or output.", 5 NC "No Connection.", 6 D "Drain Terminal. This pin can be an input or output.", 7 NC "No Connection.", 8 NC "No Connection.", 9 S4 "Source Terminal. This pin can be an input or output.", 10 S3 "Source Terminal. This pin can be an input or output.", 11 VDD (power) "Most Positive Power Supply Potential.", 12 GND (power) "Ground (0 V) Reference.", 13 NC "No Connection.", 14 A1 (in) "Logic Control Input.", 15 A0 (in) "Logic Control Input.", 16 EN (in) "Active High Digital Input. When this pin is low, the device is disabled and all switches  are off. When this pin is high, the Ax logic inputs determine the on switch.", 17 EP (power) "Exposed Pad. Tied to substrate, VSS"

## ADG1604BCPZ-REEL7
designator U?
1 Ohm Typical On Resistance, +/-5 V, +12 V, +5 V and +3.3 V, 4:1 Multiplexer, 0.95 Ohm Ron, 16-pin QFN (CP-16-13), Reel; Manufacturer: Analog Devices; PartNumber: ADG1604BCPZ-REEL7; Bandwidth (Hz): 15M, 19M, 16M, 15M; Max Analog Signal Range: Vss to Vdd; Ron (ohms): 950m; t transition (s): 100n; DatasheetVersion: Rev. A; PackageVersion: 031006-A, 06/2006; PackageReference: CP-16-13; PackageDescription: 16-Pin Lead Frame Chip Scale Package, Body 4 x 4 mm, Pitch 0.65 mm; Supplier 1: Digi-Key; Supplier Part Number 1: ADG1604BCPZ-REEL7TR-ND; Supplier 2: Digi-Key; Supplier Part Number 2: ADG1604BCPZ-REEL7CT-ND; Supplier 3: Digi-Key; Supplier Part Number 3: ADG1604BCPZ-REEL7DKR-ND; Supplier 4: Farnell; Supplier Part Number 4: 2312987; Supplier 5: Newark; Supplier Part Number 5: 74P0668; Supplier 6: Newark; Supplier Part Number 6: 71P7801; Supplier 7: Mouser; Supplier Part Number 7: 584-ADG1604BCPZ-R7; Packing: Reel; Mounting Technology: Surface Mount; Code_JEDEC: MO-220-VGGC.; ComponentLink1Description: Manufacturer URL; ComponentLink1URL: http://www.analog.com/en/index.html; ComponentLink2Description: Datasheet; ComponentLink2URL: http://www.analog.com/static/imported-files/data_sheets/ADG1604.pdf; ComponentLink3Description: Package Specification; ComponentLink3URL: http://www.analog.com/static/imported-files/packages/PKG_PDF/LFCSP(CP)/CP-16/CP_16_13.pdf
footprint ADI-CP-16-13_N (QFN, 16-Leads, Body 4x4mm, Pitch 0.65mm, Thermal Pad 2.5x2.5mm, IPC Medium Density)
footprint ADI-CP-16-13_L (QFN, 16-Leads, Body 4x4mm, Pitch 0.65mm, Thermal Pad 2.5x2.5mm, IPC High Density)
footprint ADI-CP-16-13_M (QFN, 16-Leads, Body 4x4mm, Pitch 0.65mm, Thermal Pad 2.5x2.5mm, IPC Low Density)
pins: 1 VSS (power) "Most Negative Power Supply Potential.", 2 NC "No Connection.", 3 S1 "Source Terminal. This pin can be an input or output.", 4 S2 "Source Terminal. This pin can be an input or output.", 5 NC "No Connection.", 6 D "Drain Terminal. This pin can be an input or output.", 7 NC "No Connection.", 8 NC "No Connection.", 9 S4 "Source Terminal. This pin can be an input or output.", 10 S3 "Source Terminal. This pin can be an input or output.", 11 VDD (power) "Most Positive Power Supply Potential.", 12 GND (power) "Ground (0 V) Reference.", 13 NC "No Connection.", 14 A1 (in) "Logic Control Input.", 15 A0 (in) "Logic Control Input.", 16 EN (in) "Active High Digital Input. When this pin is low, the device is disabled and all switches  are off. When this pin is high, the Ax logic inputs determine the on switch.", 17 EP (power) "Exposed Pad. Tied to substrate, VSS"

## ADG1604BRUZ
designator U?
1 Ohm Typical On Resistance, +/-5 V, +12 V, +5 V and +3.3 V, 4:1 Multiplexer, 0.95 Ohm Ron, 14-pin SOP (RU-14), Tube; Manufacturer: Analog Devices; PartNumber: ADG1604BRUZ; Bandwidth (Hz): 15M, 19M, 16M, 15M; Max Analog Signal Range: Vss to Vdd; Ron (ohms): 950m; t transition (s): 100n; DatasheetVersion: Rev. A; PackageVersion: Aug-02; PackageReference: RU-14; PackageDescription: 14-Pin Thin Shrink Small Outline Package, Body 5 x 4.4 mm, Pitch 0.65 mm; Supplier 1: Digi-Key; Supplier Part Number 1: ADG1604BRUZ-ND; Supplier 2: Farnell; Supplier Part Number 2: 1827326; Supplier 3: Newark; Supplier Part Number 3: 71P7802; Supplier 4: Mouser; Supplier Part Number 4: 584-ADG1604BRUZ; Packing: Tube; Mounting Technology: Surface Mount; Code_JEDEC: MO-153AB-1; ComponentLink1Description: Manufacturer URL; ComponentLink1URL: http://www.analog.com/en/index.html; ComponentLink2Description: Datasheet; ComponentLink2URL: http://www.analog.com/static/imported-files/data_sheets/ADG1604.pdf; ComponentLink3Description: Package Specification; ComponentLink3URL: http://www.analog.com/static/imported-files/packages/36057385283879153717235186773RU14.pdf
footprint ADI-RU-14_N (SOP, 14-Leads, Body 5x4.4mm, Pitch 0.65mm, IPC Medium Density)
footprint ADI-RU-14_L (SOP, 14-Leads, Body 5x4.4mm, Pitch 0.65mm, IPC High Density)
footprint ADI-RU-14_M (SOP, 14-Leads, Body 5x4.4mm, Pitch 0.65mm, IPC Low Density)
pins: 1 A0 (in) "Logic Control Input.", 2 EN (in) "Active High Digital Input. When low, the device is disabled and all switches are off. When high, Ax logic inputs determine on switches.", 3 VSS (power) "Most Negative Power Supply Potential.", 4 S1 "Source Terminal. Can be an input or an output.", 5 S2 "Source Terminal. Can be an input or an output.", 6 D "Drain Terminal. Can be an input or an output.", 7 NC "No Connection.", 8 NC "No Connection.", 9 NC "No Connection.", 10 S4 "Source Terminal. Can be an input or an output.", 11 S3 "Source Terminal. Can be an input or an output.", 12 VDD (power) "Most Positive Power Supply Potential.", 13 GND (power) "Ground (0 V) Reference.", 14 A1 (in) "Logic Control Input."

## ADG1604BRUZ-REEL
designator U?
1 Ohm Typical On Resistance, +/-5 V, +12 V, +5 V and +3.3 V, 4:1 Multiplexer, 0.95 Ohm Ron, 14-pin SOP (RU-14), Reel; Manufacturer: Analog Devices; PartNumber: ADG1604BRUZ-REEL; Bandwidth (Hz): 15M, 19M, 16M, 15M; Max Analog Signal Range: Vss to Vdd; Ron (ohms): 950m; t transition (s): 100n; DatasheetVersion: Rev. A; PackageVersion: Aug-02; PackageReference: RU-14; PackageDescription: 14-Pin Thin Shrink Small Outline Package, Body 5 x 4.4 mm, Pitch 0.65 mm; Supplier 1: Digi-Key; Supplier Part Number 1: ADG1604BRUZ-REEL-ND; Supplier 2: Newark; Supplier Part Number 2: 71P7803; Supplier 3: Mouser; Supplier Part Number 3: 584-ADG1604BRUZ-R; Packing: Reel; Mounting Technology: Surface Mount; Code_JEDEC: MO-153AB-1; ComponentLink1Description: Manufacturer URL; ComponentLink1URL: http://www.analog.com/en/index.html; ComponentLink2Description: Datasheet; ComponentLink2URL: http://www.analog.com/static/imported-files/data_sheets/ADG1604.pdf; ComponentLink3Description: Package Specification; ComponentLink3URL: http://www.analog.com/static/imported-files/packages/36057385283879153717235186773RU14.pdf
footprint ADI-RU-14_N (SOP, 14-Leads, Body 5x4.4mm, Pitch 0.65mm, IPC Medium Density)
footprint ADI-RU-14_L (SOP, 14-Leads, Body 5x4.4mm, Pitch 0.65mm, IPC High Density)
footprint ADI-RU-14_M (SOP, 14-Leads, Body 5x4.4mm, Pitch 0.65mm, IPC Low Density)
pins: 1 A0 (in) "Logic Control Input.", 2 EN (in) "Active High Digital Input. When low, the device is disabled and all switches are off. When high, Ax logic inputs determine on switches.", 3 VSS (power) "Most Negative Power Supply Potential.", 4 S1 "Source Terminal. Can be an input or an output.", 5 S2 "Source Terminal. Can be an input or an output.", 6 D "Drain Terminal. Can be an input or an output.", 7 NC "No Connection.", 8 NC "No Connection.", 9 NC "No Connection.", 10 S4 "Source Terminal. Can be an input or an output.", 11 S3 "Source Terminal. Can be an input or an output.", 12 VDD (power) "Most Positive Power Supply Potential.", 13 GND (power) "Ground (0 V) Reference.", 14 A1 (in) "Logic Control Input."

## ADG1604BRUZ-REEL7
designator U?
1 Ohm Typical On Resistance, +/-5 V, +12 V, +5 V and +3.3 V, 4:1 Multiplexer, 0.95 Ohm Ron, 14-pin SOP (RU-14), Reel; Manufacturer: Analog Devices; PartNumber: ADG1604BRUZ-REEL7; Bandwidth (Hz): 15M, 19M, 16M, 15M; Max Analog Signal Range: Vss to Vdd; Ron (ohms): 950m; t transition (s): 100n; DatasheetVersion: Rev. A; PackageVersion: Aug-02; PackageReference: RU-14; PackageDescription: 14-Pin Thin Shrink Small Outline Package, Body 5 x 4.4 mm, Pitch 0.65 mm; Supplier 1: Digi-Key; Supplier Part Number 1: ADG1604BRUZ-REEL7-ND; Supplier 2: Newark; Supplier Part Number 2: 71P7804; Supplier 3: Mouser; Supplier Part Number 3: 584-ADG1604BRUZ-R7; Packing: Reel; Mounting Technology: Surface Mount; Code_JEDEC: MO-153AB-1; ComponentLink1Description: Manufacturer URL; ComponentLink1URL: http://www.analog.com/en/index.html; ComponentLink2Description: Datasheet; ComponentLink2URL: http://www.analog.com/static/imported-files/data_sheets/ADG1604.pdf; ComponentLink3Description: Package Specification; ComponentLink3URL: http://www.analog.com/static/imported-files/packages/36057385283879153717235186773RU14.pdf
footprint ADI-RU-14_N (SOP, 14-Leads, Body 5x4.4mm, Pitch 0.65mm, IPC Medium Density)
footprint ADI-RU-14_L (SOP, 14-Leads, Body 5x4.4mm, Pitch 0.65mm, IPC High Density)
footprint ADI-RU-14_M (SOP, 14-Leads, Body 5x4.4mm, Pitch 0.65mm, IPC Low Density)
pins: 1 A0 (in) "Logic Control Input.", 2 EN (in) "Active High Digital Input. When low, the device is disabled and all switches are off. When high, Ax logic inputs determine on switches.", 3 VSS (power) "Most Negative Power Supply Potential.", 4 S1 "Source Terminal. Can be an input or an output.", 5 S2 "Source Terminal. Can be an input or an output.", 6 D "Drain Terminal. Can be an input or an output.", 7 NC "No Connection.", 8 NC "No Connection.", 9 NC "No Connection.", 10 S4 "Source Terminal. Can be an input or an output.", 11 S3 "Source Terminal. Can be an input or an output.", 12 VDD (power) "Most Positive Power Supply Potential.", 13 GND (power) "Ground (0 V) Reference.", 14 A1 (in) "Logic Control Input."